# Altium schematic symbol library MCP23S08.SchLib: 1 symbol
Pins are listed as number, name and electrical type; pins without a type are passive.

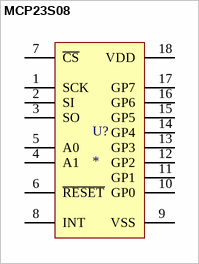
[diagram p0: symbol MCP23S08]

## MCP23S08
designator U?
pins: 1 SCK, 2 SI, 3 SO, 4 A1, 5 A0, 6 ~{RESET}, 7 ~{CS}, 8 INT, 9 VSS, 10 GP0, 11 GP1, 12 GP2, 13 GP3, 14 GP4, 15 GP5, 16 GP6, 17 GP7, 18 VDD